# Altium footprint library PCB1.PcbLib: 21 footprints (part 2 of 2)
Each footprint in its own frame and in the unit in brackets; x right, y up, seen from the top. Pads: shape width x height; smd on the part's side, far side on the other; paste and mask are expansions set on the pad; w line width, h text height; cw(c..) or ccw(c..) is an arc to the next point about the centre after c.
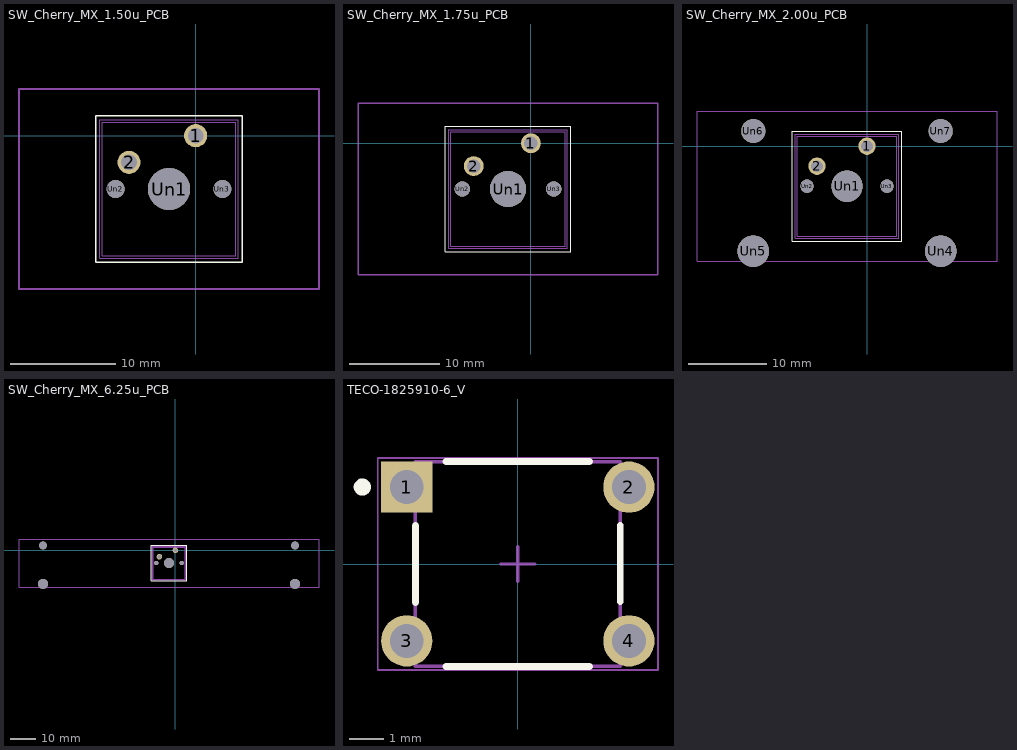
[diagram p1: the footprints below, top view; thin cyan lines are the x and y axes]

## SW_Cherry_MX_1.50u_PCB [mm]
pads (5):
  round 2.2 hole 1.5: 1(0,0) 2(-6.35,-2.54)
  round 4 hole 4: Un1(-2.54,-5.08)
  round 1.7 hole 1.7: Un2(-7.62,-5.08) Un3(2.54,-5.08)
Top Overlay:
  lines w0.12: -9.525,-12.065 4.445,-12.065 4.445,1.905 -9.525,1.905 -9.525,-12.065
Top 3D Body:
  lines w0.15: -16.828,-14.605 11.747,-14.605 11.747,4.445 -16.828,4.445 -16.828,-14.605
Mechanical 4:
  lines w0.05: -9.14,-11.68 -9.14,1.52 4.06,1.52 4.06,-11.68 -9.14,-11.68
Mechanical 6:
  lines w0.1: -8.89,-11.43 3.81,-11.43 3.81,1.27 -8.89,1.27 -8.89,-11.43
  text "%R" at -2.933,2.501 h1

## SW_Cherry_MX_1.75u_PCB [mm]
pads (5):
  round 2.2 hole 1.5: 1(0,0) 2(-6.35,-2.54)
  round 4 hole 4: Un1(-2.54,-5.08)
  round 1.7 hole 1.7: Un2(-7.62,-5.08) Un3(2.54,-5.08)
Top Overlay:
  lines w0.12: -9.525,-12.065 4.445,-12.065 4.445,1.905 -9.525,1.905 -9.525,-12.065
Top 3D Body:
  lines w0.15: -19.209,-14.605 14.129,-14.605 14.129,4.445 -19.209,4.445 -19.209,-14.605
Mechanical 4:
  lines w0.05: -9.14,-11.68 -9.14,1.52 4.06,1.52 4.06,-11.68 -9.14,-11.68
Mechanical 6:
  lines w0.1: -8.89,-11.43 3.81,-11.43 3.81,1.27 -8.89,1.27 -8.89,-11.43
  text "%R" at -2.933,2.501 h1

## SW_Cherry_MX_2.00u_PCB [mm]
pads (9):
  round 2.2 hole 1.5: 1(0,0) 2(-6.35,-2.54)
  round 4 hole 4: Un1(-2.54,-5.08) Un4(9.36,-13.32) Un5(-14.44,-13.32)
  round 1.7 hole 1.7: Un2(-7.62,-5.08) Un3(2.54,-5.08)
  round 3.05 hole 3.05: Un6(-14.44,1.92) Un7(9.36,1.92)
Top Overlay:
  lines w0.12: -9.525,-12.065 -9.525,1.905 4.445,1.905 4.445,-12.065 -9.525,-12.065
Top 3D Body:
  lines w0.15: -21.59,-14.605 -21.59,4.445 16.51,4.445 16.51,-14.605 -21.59,-14.605
Mechanical 4:
  lines w0.05: -9.14,-11.68 4.06,-11.68 4.06,1.52 -9.14,1.52 -9.14,-11.68
Mechanical 6:
  lines w0.1: -8.89,-11.43 -8.89,1.27 3.81,1.27 3.81,-11.43 -8.89,-11.43
  text "%R" at -2.933,2.501 h1

## SW_Cherry_MX_6.25u_PCB [mm]
pads (9):
  round 2.2 hole 1.5: 1(0,0) 2(-6.35,-2.54)
  round 4 hole 4: Un1(-2.54,-5.08) Un4(47.46,-13.32) Un5(-52.54,-13.32)
  round 1.7 hole 1.7: Un2(-7.62,-5.08) Un3(2.54,-5.08)
  round 3.05 hole 3.05: Un6(-52.54,1.92) Un7(47.46,1.92)
Top Overlay:
  lines w0.12: -9.525,-12.065 -9.525,1.905 4.445,1.905 4.445,-12.065 -9.525,-12.065
Top 3D Body:
  lines w0.15: -62.071,-14.605 -62.071,4.445 56.991,4.445 56.991,-14.605 -62.071,-14.605
Mechanical 4:
  lines w0.05: -9.14,-11.68 4.06,-11.68 4.06,1.52 -9.14,1.52 -9.14,-11.68
Mechanical 6:
  lines w0.1: -8.89,-11.43 -8.89,1.27 3.81,1.27 3.81,-11.43 -8.89,-11.43
  text "%R" at -2.933,2.501 h1

## TECO-1825910-6_V [mm] "Switch, 4-Leads, Body 5.99x5.99mm"
height 5
pads (4):
  rect 1.5x1.5 hole 0.99: 1(-3.25,2.25)
  round 1.5 hole 0.99: 2(3.25,2.25) 3(-3.25,-2.25) 4(3.25,-2.25)
Top Overlay:
  circle w0.25: c-4.55,2.25 r0.125
  lines w0.2: -2.995,-1.129 -2.995,1.129 ; -2.104,-2.995 2.1,-2.995 ; -2.104,2.995 2.1,2.995 ; 2.995,-1.1 2.995,1.129
Mechanical 13:
  lines w0.1: -2.995,-2.995 -2.995,2.995 2.995,2.995 2.995,-2.995 -2.995,-2.995
Mechanical 15:
  lines w0.05: -4.1,-3.1 -4.1,3.1 4.1,3.1 4.1,-3.1 -4.1,-3.1
  lines w0.1: -0.5,0 0.5,0 ; 0,-0.5 0,0.5
3D body: height 5, standoff 0, extent -2.995,-2.995 2.995,2.995